# EAGLE library part HMC1052L (library QFN)
HMC1052L Dual axis magnetic sensor. Used for compass and magnetometer applications. Schematic and footprint are not tested and probably need fixing. Spark Fun Electronics SKU : IC-HMC1052L
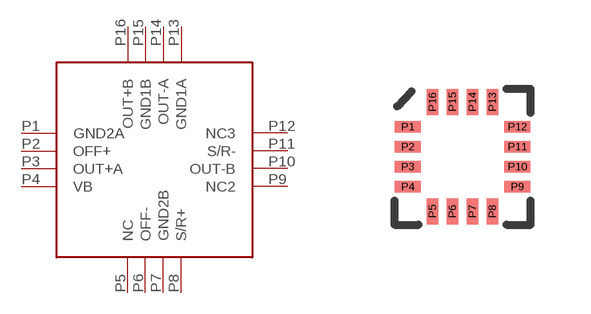
[diagram p33: symbol with the pads of 16LPCC; footprint 16LPCC]

Designator prefix -

## HMC1052L  [16LPCC]
P1  GND2A
P2  OFF+
P3  OUT+A
P4  VB
P5  NC
P6  OFF-
P7  GND2B
P8  S/R+
P9  NC2
P10  OUT-B
P11  S/R-
P12  NC3
P13  GND1A
P14  OUT-A
P15  GND1B
P16  OUT+B

## Footprint 16LPCC (pad centres in mm)
smd 0.65 x 0.28: P1 0.13,2.25; P2 0.13,1.75; P3 0.13,1.25; P4 0.13,0.75; P9 2.87,0.75; P10 2.87,1.25; P11 2.87,1.75; P12 2.87,2.25
smd 0.28 x 0.65: P5 0.75,0.13; P6 1.25,0.13; P7 1.75,0.13; P8 2.25,0.13; P13 2.25,2.87; P14 1.75,2.87; P15 1.25,2.87; P16 0.75,2.87